# EAGLE library part LM2776 (library Rebel)
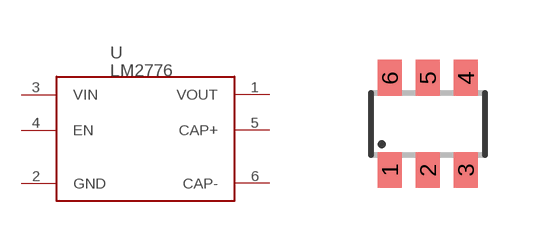
[diagram p36: symbol with the pads of SOT23-6; footprint SOT23-6]

Designator prefix -

## LM2776  [SOT23-6]
1  VOUT
2  GND
3  VIN
4  EN
5  CAP+
6  CAP-

## Footprint SOT23-6 (pad centres in mm)
Small Outline Transistor 6 lead
smd 0.6 x 0.9: 1 -0.95,-1.15; 2 0,-1.15; 3 0.95,-1.15; 4 0.95,1.15; 5 0,1.15; 6 -0.95,1.15